# Altium schematic symbol library RES.Schlib: 1 symbol
Pins are listed as number, name and electrical type; pins without a type are passive.

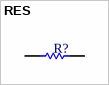
[diagram p0: symbol RES]

## RES
designator R?, comment Resistor  (value not drawn)
pins: 1, 2